# Altium integrated library Analog Devices Data Converters Analog-to-Digital Converters.IntLib: 2404 symbols (part 209 of 346)
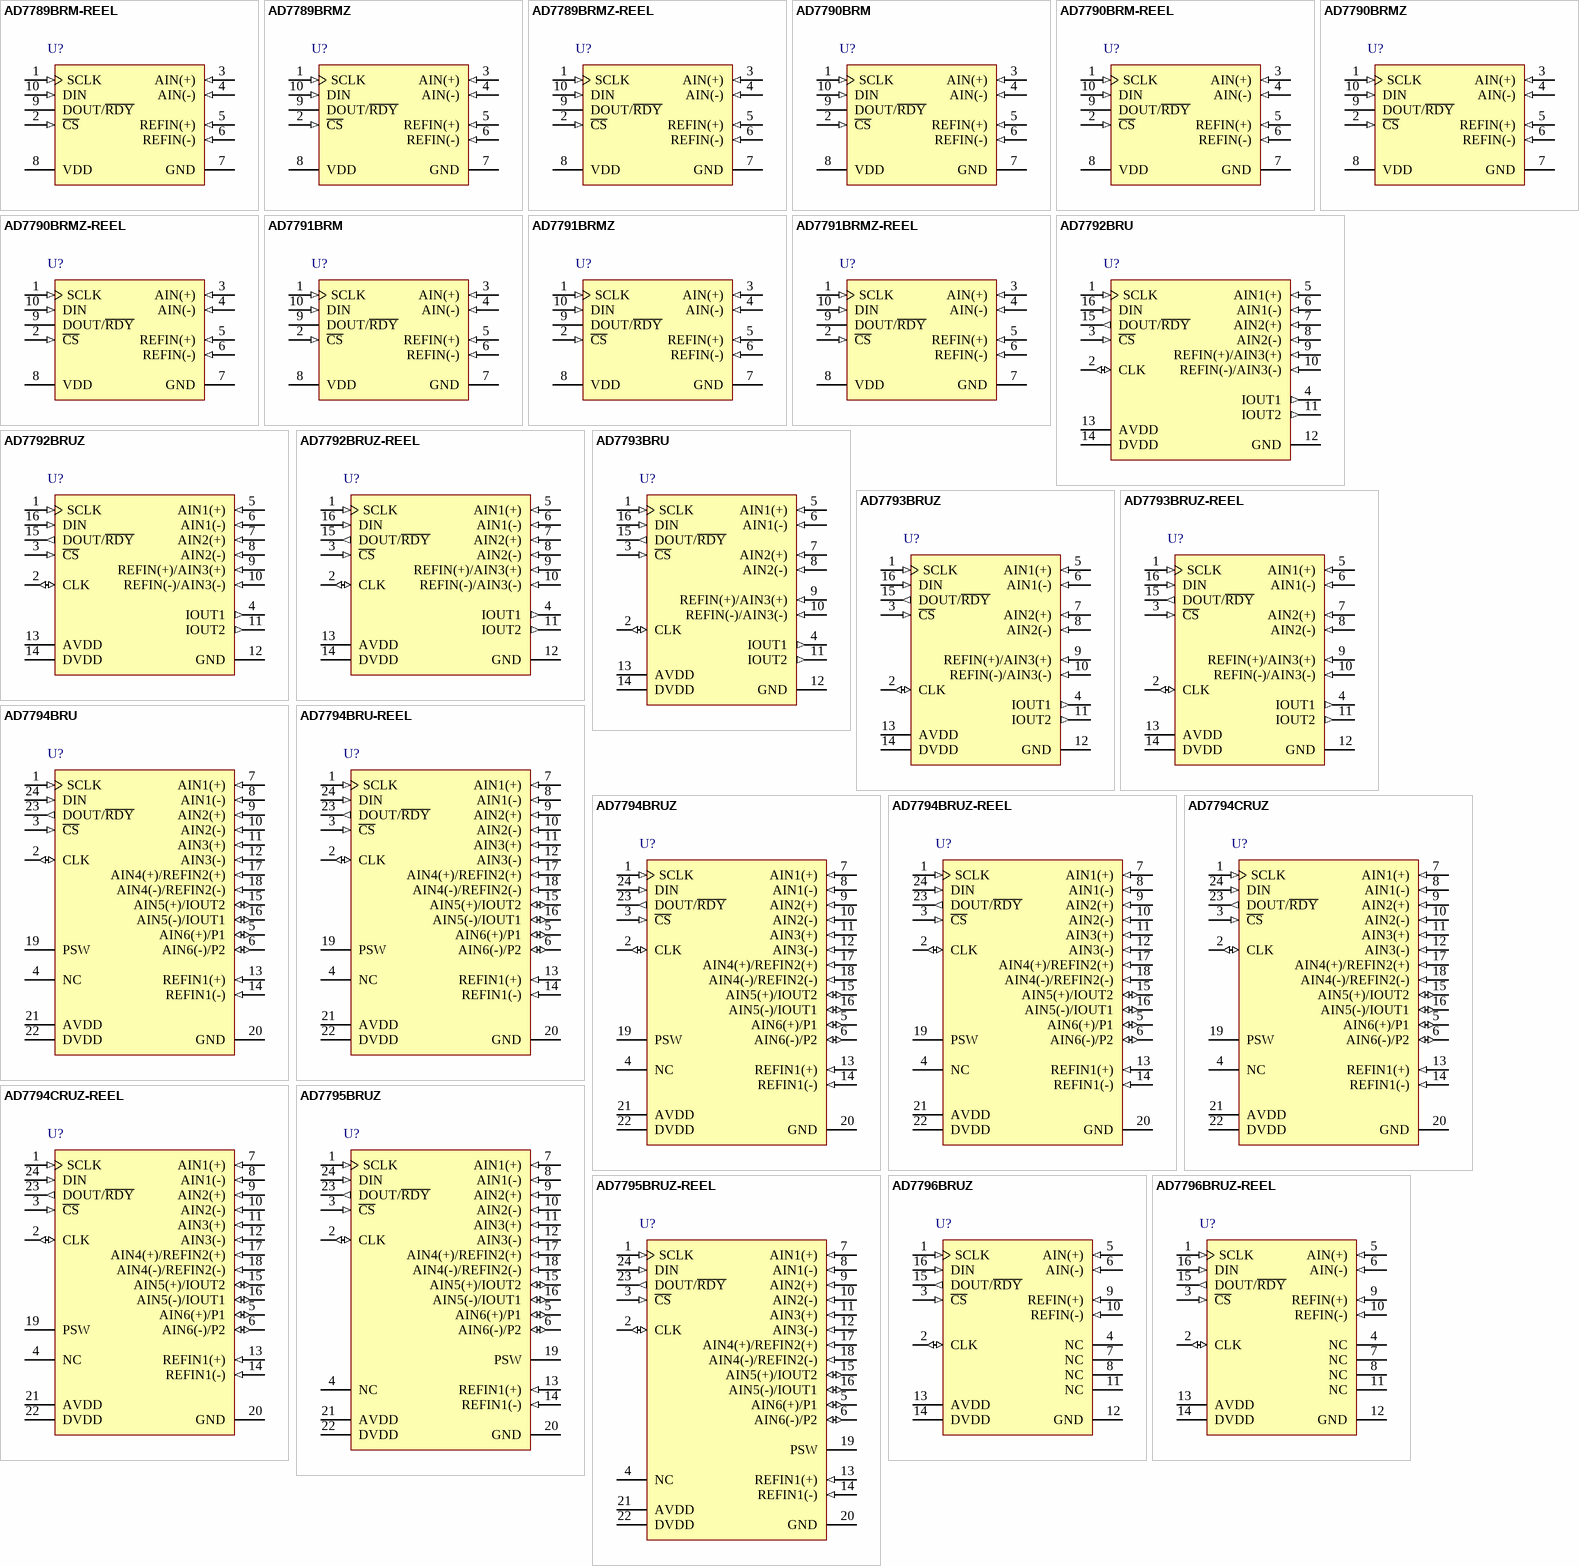
[diagram p367: symbols AD7789BRM-REEL to AD7796BRUZ-REEL]

## AD7795BRUZ
designator U?
6 Channel 16-Bit Low Noise Low Power Sigma-Delta Analog-to-Digital Converter with Serial, SPI Interface and On-Chip In-Amp and Reference, 470SPS, -40 to +105 degC, RU-24, Pb-Free, Tube; Generic Part Number: AD7795; Manufacturer: Analog Devices; PartNumber: AD7795BRUZ; Resolution (Bits): 16; Channels: 6; Throughput Rate (SPS): 470; Interface: Ser, SPI; DatasheetVersion: Rev.D; PackageVersion: 2002; PackageReference: RU-24; PackageDescription: 24-Lead Thin Shrink Small Outline Package [TSSOP]; Supplier 1: Digi-Key; Supplier Part Number 1: AD7795BRUZ-ND; Supplier 2: Farnell; Supplier Part Number 2: 1274227; Supplier 3: Newark; Supplier Part Number 3: 19M0900; Supplier 4: Mouser; Supplier Part Number 4: 584-AD7795BRUZ; RoHS: Y; Packing: Tube; Mounting Technology: Surface Mount; Code_JEDEC: MO-153-AD; ComponentLink1Description: Manufacturer URL; ComponentLink1URL: http://www.analog.com/en/index.html; ComponentLink2Description: Datasheet; ComponentLink2URL: http://www.analog.com/static/imported-files/data_sheets/AD7794_7795.pdf; ComponentLink3Description: Package Specification; ComponentLink3URL: http://www.analog.com/static/imported-files/packages/380523655245964505593671154107510036154RU24.pdf; ComponentLink4Description: Product URL; ComponentLink4URL: http://www.analog.com/en/analog-to-digital-converters/ad-converters/ad7795/products/product.html
footprint RU-24_N (TSOP, 24-Leads, Body 7.8x4.4mm, Pitch 0.65mm, IPC Medium Density)
footprint RU-24_L (TSOP, 24-Leads, Body 7.8x4.4mm, Pitch 0.65mm, IPC High Density)
footprint RU-24_M (TSOP, 24-Leads, Body 7.8x4.4mm, Pitch 0.65mm, IPC Low Density)
pins: 1 SCLK (in) "Serial Clock Input. This serial clock input is for data transfers to and from the ADC. The SCLK has a Schmitttriggered input, making the interface suitable for opto-isolated applications. The serial clock can be continuous (See Datasheet)", 2 CLK (io) "Clock In/Clock Out. The internal clock can be made available at this pin. Alternatively, the internal clock can be disabled, and the ADC can be driven by an external clock. This allows several ADCs to be driven from a common (See Datasheet)", 3 ~{CS} (in) "Chip Select Input. This is an active low logic input used to select the ADC. C\S\ can be used to select the ADC in systems with more than one device on the serial bus or as a frame synchronization signal in communicating (See Datasheet)", 4 NC "No Connect.", 5 AIN6(+)/P1 (io) "Analog Input/Digital Output Pin. AIN6(+) is the positive terminal of the differential analog input pair, AIN6(+)/AIN6(-). This pin can also function as a general-purpose output bit referenced between AVDD and GND.", 6 AIN6(-)/P2 (io) "Analog Input/Digital Output Pin. AIN6(-) is the negative terminal of the differential analog input pair, AIN6(+)/AIN6(-). This pin can also function as a general-purpose output bit referenced between AVDD and GND.", 7 AIN1(+) (in) "Analog Input. AIN1(+) is the positive terminal of the differential analog input pair, AIN1(+)/AIN1(-).", 8 AIN1(-) (in) "Analog Input. AIN1(-) is the negative terminal of the differential analog input pair, AIN1(+)/AIN1(-).", 9 AIN2(+) (in) "Analog Input. AIN2(+) is the positive terminal of the differential analog input pair, AIN2(+)/AIN2(-).", 10 AIN2(-) (in) "Analog Input. AIN2(-) is the negative terminal of the differential analog input pair, AIN2(+)/AIN2(-).", 11 AIN3(+) (in) "Analog Input. AIN3(+) is the positive terminal of the differential analog input pair, AIN3(+)/AIN3(-).", 12 AIN3(-) (in) "Analog Input. AIN3(-) is the negative terminal of the differential analog input pair, AIN3(+)/AIN3(-).", 13 REFIN1(+) (in) "Positive Reference Input. An external reference can be applied between REFIN1(+) and REFIN1(-). REFIN1(+) can lie anywhere between AVDD and GND + 0.1 V. The nominal reference voltage, (REFIN1(+) - REFIN1(-)), is 2.5 V, but (See Datasheet)", 14 REFIN1(-) (in) "Negative Reference Input. This reference input can lie anywhere between GND and AVDD - 0.1 V.", 15 AIN5(+)/IOUT2 (io) "Analog Input/Output of Internal Excitation Current Source. AIN5(+) is the positive terminal of the differential analog input pair AIN5(+)/AIN5(-). Alternatively, the internal excitation current source can be made available (See Datasheet)", 16 AIN5(-)/IOUT1 (io) "Analog Input/Output of Internal Excitation Current Source. AIN5(-) is the negative terminal of the differential analog input pair, AIN5(+)/AIN5(-). Alternatively, the internal excitation current source can be made available (See Datasheet)", 17 AIN4(+)/REFIN2(+) (in) "Analog Input/Positive Reference Input. AIN4(+) is the positive terminal of the differential analog input pair AIN4(+)/AIN4(-). This pin also functions as a positive reference input for REFIN2. REFIN2(+) can lie anywhere (See Datasheet)", 18 AIN4(-)/REFIN2(-) (in) "Analog Input/Negative Reference Input. AIN4(-) is the negative terminal of the differential analog input pair AIN4(+)/AIN4(-). This pin also functions as the negative reference input for REFIN2. This reference input can lie (See Datasheet)", 19 PSW "Low-Side Power Switch to GND.", 20 GND (power) "Ground Reference Point.", 21 AVDD (power) "Supply Voltage, 2.7 V to 5.25 V.", 22 DVDD (power) "Serial Interface Supply Voltage, 2.7 V to 5.25 V. DVDD is independent of AVDD. Therefore, the serial interface operates at 3 V with AVDD at 5 V or vice versa.", 23 DOUT/~{RDY} (out) "Serial Data Output/Data Ready Output. DOUT/R\D\Y\ serves a dual purpose. It functions as a serial data output pin to access the output shift register of the ADC. The output shift register can contain data from any of the (See Datasheet)", 24 DIN (in) "Serial Data Input to the Input Shift Register on the ADC. Data in this shift register is transferred to the control registers within the ADC with the register selection bits of the communications register identifying the (See Datasheet)"